# EAGLE library part 61001018221 (library Wurth_Elektronik_Electromechanic_Board_to_Board_Connectors_rev16a)
WR-PHD 2.54mm SMT Pin Header, 10 Pins =>Code : Con_BTB_PHD_2.54_1_SMT_61001018221 <http://katalog.we-online.de/media/images/eican/Con_BTB_PHD_2.54_1_SMT_6100xx18221_pf2.jpg> Details see: http://katalog.we-online.de/en/em/610_0xx_182_21 Created 2014-05-29, Karrer Zheng 2014 (C) Würth Elektronik
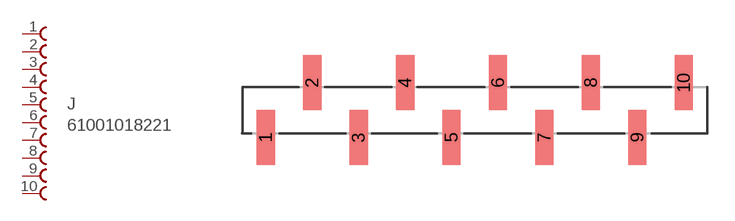
[diagram p62: symbol with the pads of 61001018221; footprint 61001018221]

Designator prefix J

## 61001018221  [61001018221]
1  1  pas
2  2  pas
3  3  pas
4  4  pas
5  5  pas
6  6  pas
7  7  pas
8  8  pas
9  9  pas
10  10  pas

## Footprint 61001018221 (pad centres in mm)
WR-PHD 2.54mm SMT Pin Header, 10 Pins
smd 1 x 3: 1 -11.43,-1.5; 2 -8.89,1.5; 3 -6.35,-1.5; 4 -3.81,1.5; 5 -1.27,-1.5; 6 1.27,1.5; 7 3.81,-1.5; 8 6.35,1.5; 9 8.89,-1.5; 10 11.43,1.5